# Altium schematic symbol library Adafruit.SchLib: 3 symbols
Pins are listed as number, name and electrical type; pins without a type are passive.

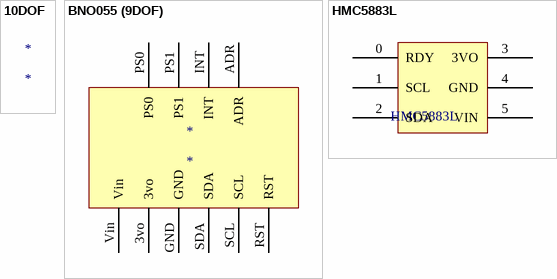
[diagram p0: symbols 10DOF to HMC5883L]

## 10DOF
designator *
footprint 10DOF

## BNO055 (9DOF)
designator *
footprint BNO055
pins: 3vo, ADR, GND, INT, PS0, PS1, RST, SCL, SDA, Vin

## HMC5883L
designator HMC5883L  (value not drawn)
Compass
footprint HMC5883L (Compass)
pins: 0 RDY, 1 SCL, 2 SDA, 3 3VO, 4 GND, 5 VIN